# EAGLE library part LTC3553 (library jnode)
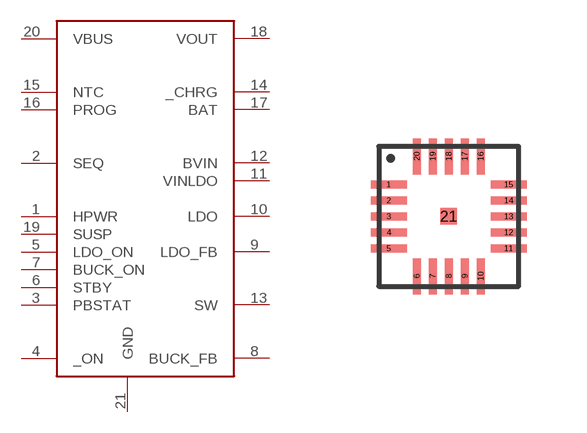
[diagram p3: symbol with the pads of QFN20; footprint QFN20]

Designator prefix -

## LTC3553  [QFN20]
1  HPWR  in
2  SEQ
3  PBSTAT  out
4  _ON  in
5  LDO_ON  in
6  STBY  in
7  BUCK_ON  in
8  BUCK_FB
9  LDO_FB
10  LDO
11  VINLDO
12  BVIN
13  SW
14  _CHRG
15  NTC
16  PROG
17  BAT
18  VOUT
19  SUSP  in
20  VBUS
21  GND

## Footprint QFN20 (pad centres in mm)
smd 0.9 x 0.2: 1 -1.5,0.8; 2 -1.5,0.4; 3 -1.5,0; 4 -1.5,-0.4; 5 -1.5,-0.8; 11 1.5,-0.8; 12 1.5,-0.4; 13 1.5,0; 14 1.5,0.4; 15 1.5,0.8
smd 0.2 x 0.9: 6 -0.8,-1.5; 7 -0.4,-1.5; 8 0,-1.5; 9 0.4,-1.5; 10 0.8,-1.5; 16 0.8,1.5; 17 0.4,1.5; 18 0,1.5; 19 -0.4,1.5; 20 -0.8,1.5
smd 0.42 x 0.42: 21 0,0